# Altium footprint library Resistor.PcbLib: 19 footprints (part 2 of 2)
Each footprint in its own frame and in the unit in brackets; x right, y up, seen from the top. Pads: shape width x height; smd on the part's side, far side on the other; paste and mask are expansions set on the pad; w line width, h text height; cw(c..) or ccw(c..) is an arc to the next point about the centre after c.
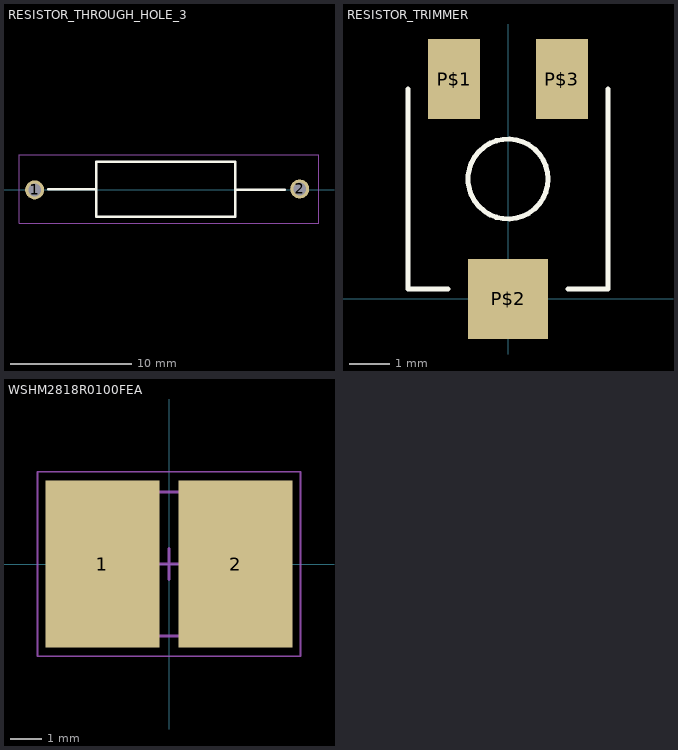
[diagram p1: the footprints below, top view; thin cyan lines are the x and y axes]

## RESISTOR_THROUGH_HOLE_3 [mm]
pads (2):
  round 1.575 hole 1.05: 1(9.195,-0.025) 2(31.166,0.051)
Top Overlay:
  lines w0.2: 10.312,0.025 14.312,0.025 ; 14.318,-2.254 25.818,-2.254 25.818,2.246 ; 14.318,-2.203 14.318,2.297 ; 14.318,2.295 25.818,2.295 ; 25.945,0 29.945,0
Mechanical 13:
  lines w0.1: 10.275,0.025 14.275,0.025 ; 14.318,-2.254 25.818,-2.254 25.818,2.246 ; 14.318,-2.203 14.318,2.297 ; 14.318,2.295 25.818,2.295 ; 25.945,0 29.945,0
Mechanical 15:
  lines w0.05: 7.899,-2.772 32.766,-2.772 32.766,2.87 ; 7.899,-2.769 7.899,2.874 32.766,2.874

## RESISTOR_TRIMMER [mm]
pads (3):
  rect 1.3x2 smd: P$1(-1.35,5.5) P$3(1.35,5.5)
  rect 2x2 smd: P$2(0,0)
Top Overlay:
  circle w0.127: c0,3 r1
  lines w0.127: -2.5,5.25 -2.5,0.25 -1.5,0.25 ; 1.5,0.25 2.5,0.25 2.5,5.25

## WSHM2818R0100FEA [mm] "Chip Resistor, 2-Leads, Body 7,10x4,60mm, IPC Medium Density"
height 1.75
pads (2):
  rect 3.63x5.33 smd: 1(-2.125,0) 2(2.125,0)
Mechanical 13:
  lines w0.1: -3.55,-2.3 3.55,-2.3 3.55,2.3 -3.55,2.3 -3.55,-2.3
Mechanical 15:
  lines w0.05: -4.2,-2.95 4.2,-2.95 4.2,2.95 -4.2,2.95 -4.2,-2.95
  lines w0.1: -0.5,0 0.5,0 ; 0,-0.5 0,0.5
3D body "WSHM2818R0100FEA.STEP": height 1.75, standoff 0, extent -3.556,-2.286 3.556,2.286